# EAGLE library part EFM8BB10F8G-A-QSOP24 (library MF_IC_Digital)
Manufacturer Part #: EFM8BB10F8G-A-QSOP24 Manufacturer: Silicon Labs Description: Busy Bee 8-bit Microcontrollers - MCU 8kB/512B RAM 12b ADC
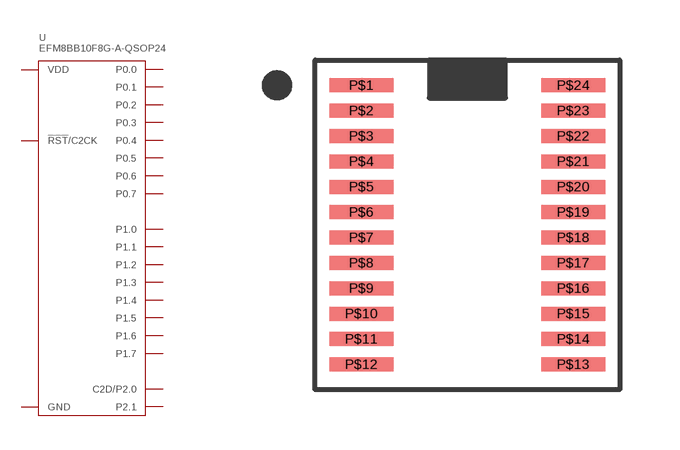
[diagram p10: symbol with the pads of EFM8BB10F8G-A-QSOP24; footprint EFM8BB10F8G-A-QSOP24]

Designator prefix U

## EFM8BB10F8G-A-QSOP24 (HOUSEPART: NO; POPULATE: 1; URL: http://www.silabs.com/products/mcu/8-bit/efm8-busy-bee/Pages/efm8-busy-bee.aspx)  [EFM8BB10F8G-A-QSOP24]
P$2  P0.2
P$3  P0.1
P$4  P0.0
P$5  GND
P$6  VDD
P$7  !RST!/C2CK
P$8  C2D/P2.0
P$9  P1.7
P$10  P1.6
P$11  P1.5
P$12  P2.1
P$14  P1.4
P$15  P1.3
P$16  P1.2
P$17  P1.1
P$18  P1.0
P$19  P0.7
P$20  P0.6
P$21  P0.5
P$22  P0.4
P$23  P0.3

## Footprint EFM8BB10F8G-A-QSOP24 (pad centres in mm)
Description: Silicon Labs Busy Bee QSOP24 Package.
smd 1.6 x 0.35: P$1 -2.65,3.493; P$2 -2.65,2.857; P$3 -2.65,2.223; P$4 -2.65,1.587; P$5 -2.65,0.953; P$6 -2.65,0.318; P$7 -2.65,-0.318; P$8 -2.65,-0.953; P$9 -2.65,-1.587; P$10 -2.65,-2.223; P$11 -2.65,-2.857; P$12 -2.65,-3.493; P$13 2.65,-3.493; P$14 2.65,-2.857; P$15 2.65,-2.223; P$16 2.65,-1.587; P$17 2.65,-0.953; P$18 2.65,-0.318; P$19 2.65,0.318; P$20 2.65,0.953; P$21 2.65,1.587; P$22 2.65,2.223; P$23 2.65,2.857; P$24 2.65,3.493